# Altium schematic symbol library BC846.SchLib: 1 symbol
Pins are listed as number, name and electrical type; pins without a type are passive.

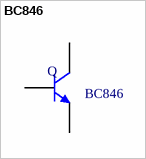
[diagram p0: symbol BC846]

## BC846
designator Q  value BC846  (hidden comment: *)
Manufacturer: NXP Semiconductors; Voltage: 65V; Farnell Code: 1081227; Manufacturer Code: BC846; Unit Price: 0,049 €
footprint SOT23 (Footprint not found)
pins: 1 B, 2 E, 3 C